# EAGLE library part ADC121S021 (library texas-instruments.2)
Single Channel, 50 to 200 ksps, 12-Bit A/D Converter
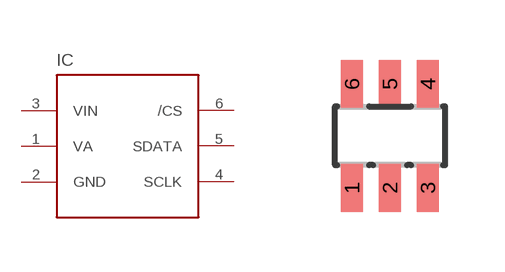
[diagram p14: symbol with the pads of SOT23-6; footprint SOT23-6]

Designator prefix IC

## ADC121S021  [SOT23-6]
1  VA
2  GND
3  VIN
4  SCLK
5  SDATA
6  /CS

## Footprint SOT23-6 (pad centres in mm)
5-Lead Small Outline Transistor Package SOT-23 Source: http://www.analog.com/UploadedFiles/Data_Sheets/346131962AD8067_a.pdf
smd 0.55 x 1.2: 1 -0.95,-1.3; 2 0,-1.3; 3 0.95,-1.3; 4 0.95,1.3; 5 0,1.3; 6 -0.95,1.3